# EAGLE library part GPS15X (library avc)
Garmin GPS OEM
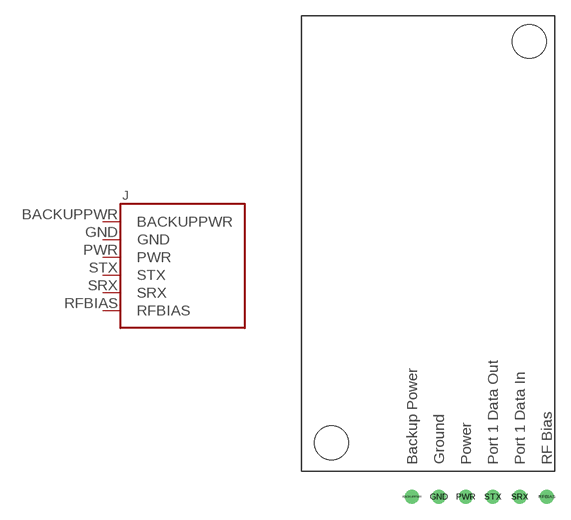
[diagram p5: symbol with the pads of GPS15; footprint GPS15]

Designator prefix J

## GPS15X (PARTNUM: 010-00240-21)  [GPS15]
BACKUPPWR  BACKUPPWR
GND  GND
PWR  PWR
RFBIAS  RFBIAS
SRX  SRX
STX  STX

## Footprint GPS15 (pad centres in mm)
drill 0.8 round: BACKUPPWR 7.62,-5.08; GND 10.16,-5.08; PWR 12.7,-5.08; RFBIAS 20.32,-5.08; SRX 17.78,-5.08; STX 15.24,-5.08
hole 3.2 at 0,0
hole 3.2 at 18.67,37.85